# Altium footprint library PcbLib2.PcbLib: 1 footprints
Each footprint in its own frame and in the unit in brackets; x right, y up, seen from the top. Pads: shape width x height; smd on the part's side, far side on the other; paste and mask are expansions set on the pad; w line width, h text height; cw(c..) or ccw(c..) is an arc to the next point about the centre after c.
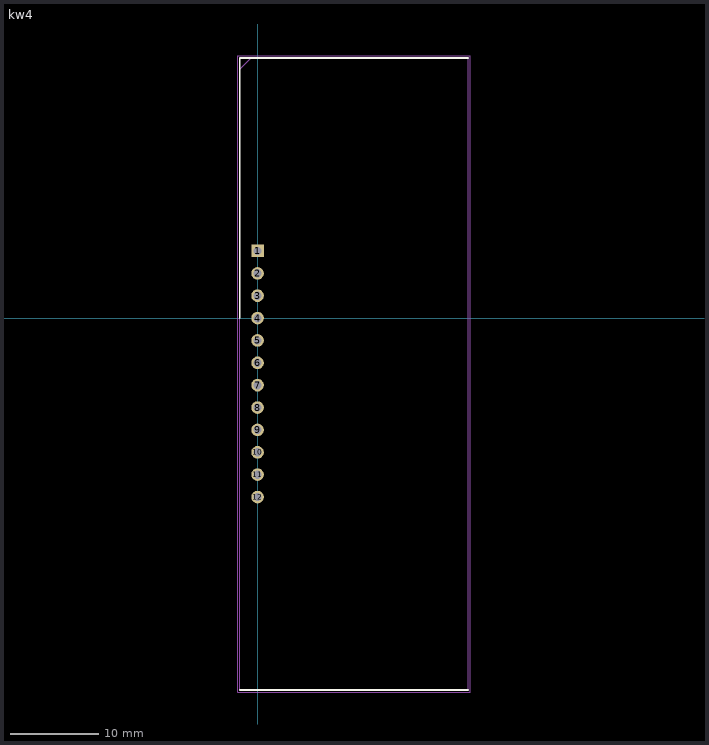
[diagram p0: the footprint, top view; thin cyan lines are the x and y axes]

## kw4 [mm]
pads (12):
  rect 1.425x1.425 hole 0.95: 1(0,7.62)
  round 1.425 hole 0.95: 2(0,5.08) 3(0,2.54) 4(0,0) 5(0,-2.54) 6(0,-5.08) 7(0,-7.62) 8(0,-10.16) 9(0,-12.7) 10(0,-15.24) 11(0,-17.78) 12(0,-20.32)
Top Overlay:
  lines w0.2: -2.025,-42.225 23.925,-42.225 ; -2.025,0 -2.025,29.525 23.925,29.525
Mechanical 13:
  lines w0.1: -2.025,28.255 -0.755,29.525 ; -2.025,-42.225 23.925,-42.225 23.925,29.525 -2.025,29.525 -2.025,-42.225
Mechanical 15:
  lines w0.05: -2.275,-42.475 24.175,-42.475 24.175,29.775 -2.275,29.775 -2.275,-42.475